# Altium schematic symbol library ATtiny102.SchLib: 1 symbol
Pins are listed as number, name and electrical type; pins without a type are passive.

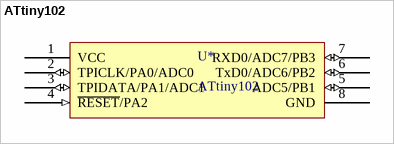
[diagram p0: symbol ATtiny102]

## ATtiny102
designator U*
footprint ATtiny102 (SOIC, 8-Leads, Body 4,93x3,90mm, Pitch 1,27mm, IPC Medium Density)
pins: 1 VCC (power), 2 TPICLK/PA0/ADC0 (io), 3 TPIDATA/PA1/ADC1 (io), 4 ~{RESET}/PA2 (in), 5 ADC5/PB1 (io), 6 TxD0/ADC6/PB2 (io), 7 RXD0/ADC7/PB3 (io), 8 GND